# EAGLE library part MCP1636* (library Microchip)
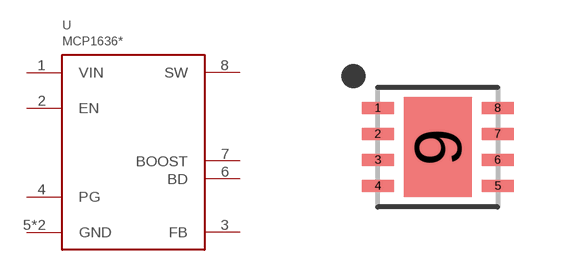
[diagram p64: symbol with the pads of VDFN8; footprint VDFN8]

Designator prefix U

## MCP16364, MCP16365, MCP16366  [VDFN8]
1  VIN
2  EN
3  FB
4  PG
5  GND
6  BD
7  BOOST
8  SW
9  GND

## Footprint VDFN8 (pad centres in mm)
smd 0.8 x 0.3: 1 -1.5,0.975; 2 -1.5,0.325; 3 -1.5,-0.325; 4 -1.5,-0.975; 5 1.5,-0.975; 6 1.5,-0.325; 7 1.5,0.325; 8 1.5,0.975
smd 1.7 x 2.5: 9 0,0